# Altium schematic symbol library LT7815.SchLib: 1 symbol
Pins are listed as number, name and electrical type; pins without a type are passive.

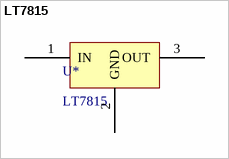
[diagram p0: symbol LT7815]

## LT7815
designator U*
footprint TO220A (220，3脚晶体管)
pins: 1 IN, 2 GND, 3 OUT